# Altium integrated library BSS138.IntLib: 1 symbol
Pins are listed as number, name and electrical type; pins without a type are passive.

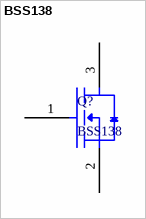
[diagram p0: symbol BSS138]

## BSS138
designator Q?
, FAIRCHILD/ON SEMICONDUCTOR
footprint SOT95P315X120-3N (SOT23, 3-Leads, Body 2.92x3.15mm, Pitch 0.95mm, IPC Medium Density)
pins: 1 G, 2 S, 3 D